# Altium schematic symbol library Connectors.SchLib: 48 symbols
Pins are listed as number, name and electrical type; pins without a type are passive.

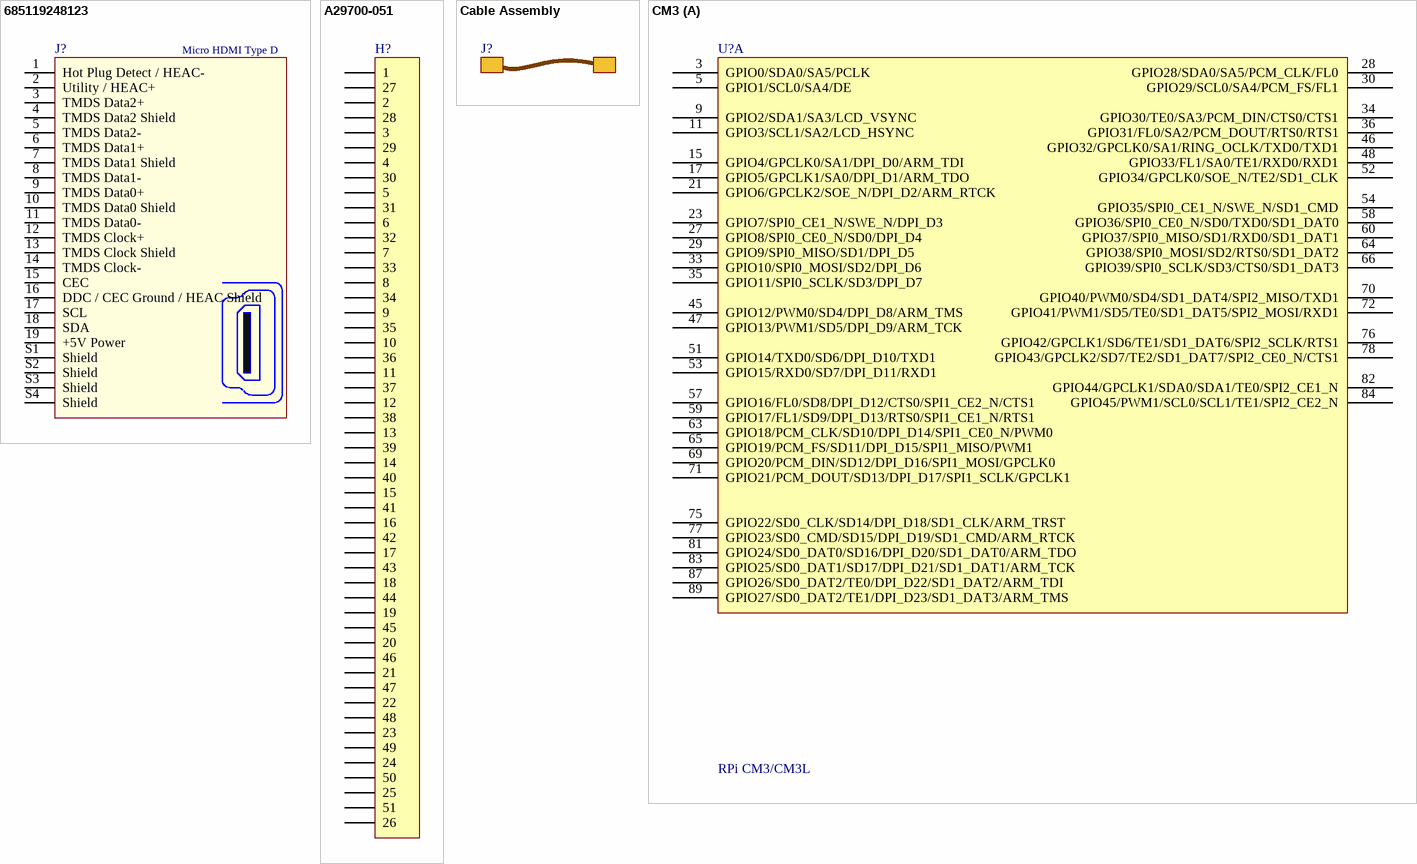
[diagram p0: symbols 685119248123 to CM3]

## 685119248123
designator J?, comment Micro HDMI Type D
Micro HDMI Type D Horizontal SMT WR-COM; Part Number: 685119248123; Rated Current: 0.5 A; ComponentLink1Description: Manufacturer; ComponentLink1URL: http://www.we-online.de; ComponentLink2Description: Datasheet; ComponentLink2URL: http://katalog.we-online.de/em/datasheet/685119248123.pdf; Published Date: May 2018; Publisher: Wurth Elektronik; Orientation: Horizontal; Interface Type: Micro HDMI Type D; Operating Temperature: -40 to 85 degC; Mounting Technology: SMT; Packaging: Tape and Reel
footprint 685119248123 (Micro HDMI Horizontal SMT)
pins: 1 Hot Plug Detect / HEAC-, 2 Utility / HEAC+, 3 TMDS Data2+, 4 TMDS Data2 Shield, 5 TMDS Data2-, 6 TMDS Data1+, 7 TMDS Data1 Shield, 8 TMDS Data1-, 9 TMDS Data0+, 10 TMDS Data0 Shield, 11 TMDS Data0-, 12 TMDS Clock+, 13 TMDS Clock Shield, 14 TMDS Clock-, 15 CEC, 16 DDC / CEC Ground / HEAC Shield, 17 SCL, 18 SDA, 19 +5V Power, S1 Shield, S2 Shield, S3 Shield, S4 Shield

## A29700-051
designator H?, comment A29700--051  (value not drawn)
Omnetics Bi-Lobe MIL-DTL-32139; Supplier Part Number 1: A29700-051; Supplier 1: Omnetics
footprint A29700--051 (Omnetics Bi-Lobe MIL-DTL-32139)
pins: 1, 2, 3, 4, 5, 6, 7, 8, 9, 10, 11, 12, 13, 14, 15, 16, 17, 18, 19, 20, 21, 22, 23, 24, 25, 26, 27, 28, 29, 30, 31, 32, 33, 34, 35, 36, 37, 38, 39, 40, 41, 42, 43, 44, 45, 46, 47, 48, 49, 50, 51

## Cable Assembly
designator J?  (value not drawn)  (mechanical)

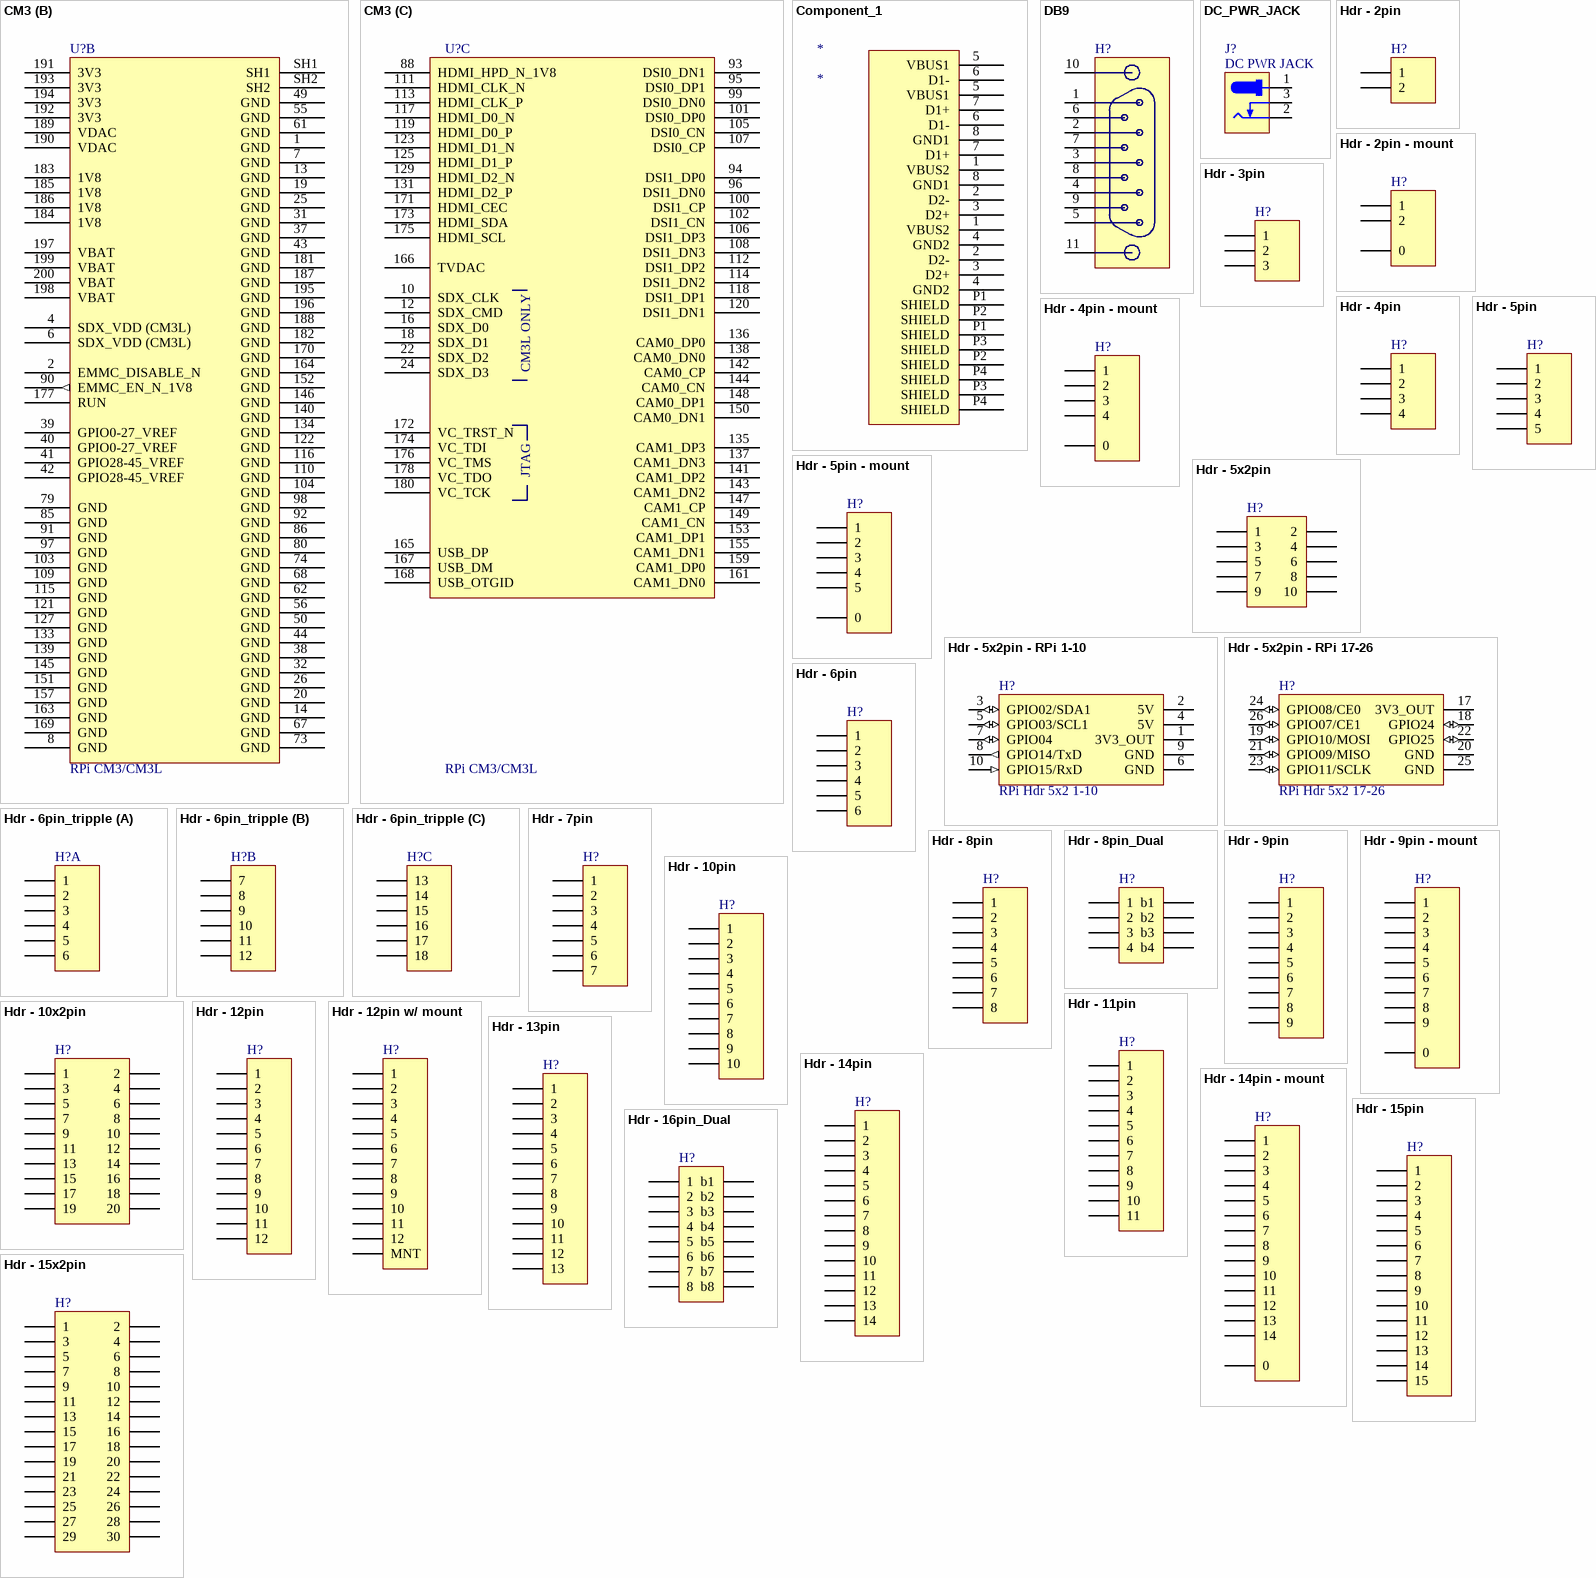
[diagram p1: symbols CM3 to Hdr - 16pin_Dual]

## CM3
designator U?, comment RPi CM3/CM3L
footprint DDR2_1473149-4 (DDR2 SODIMM Memory Socket)
footprint DDR2_1612618-4
footprint DDR2_1827341-4
part A pins: 3 GPIO0/SDA0/SA5/PCLK, 5 GPIO1/SCL0/SA4/DE, 9 GPIO2/SDA1/SA3/LCD_VSYNC, 11 GPIO3/SCL1/SA2/LCD_HSYNC, 15 GPIO4/GPCLK0/SA1/DPI_D0/ARM_TDI, 17 GPIO5/GPCLK1/SA0/DPI_D1/ARM_TDO, 21 GPIO6/GPCLK2/SOE_N/DPI_D2/ARM_RTCK, 23 GPIO7/SPI0_CE1_N/SWE_N/DPI_D3, 27 GPIO8/SPI0_CE0_N/SD0/DPI_D4, 28 GPIO28/SDA0/SA5/PCM_CLK/FL0, 29 GPIO9/SPI0_MISO/SD1/DPI_D5, 30 GPIO29/SCL0/SA4/PCM_FS/FL1, 33 GPIO10/SPI0_MOSI/SD2/DPI_D6, 34 GPIO30/TE0/SA3/PCM_DIN/CTS0/CTS1, 35 GPIO11/SPI0_SCLK/SD3/DPI_D7, 36 GPIO31/FL0/SA2/PCM_DOUT/RTS0/RTS1, 45 GPIO12/PWM0/SD4/DPI_D8/ARM_TMS, 46 GPIO32/GPCLK0/SA1/RING_OCLK/TXD0/TXD1, 47 GPIO13/PWM1/SD5/DPI_D9/ARM_TCK, 48 GPIO33/FL1/SA0/TE1/RXD0/RXD1, 51 GPIO14/TXD0/SD6/DPI_D10/TXD1, 52 GPIO34/GPCLK0/SOE_N/TE2/SD1_CLK, 53 GPIO15/RXD0/SD7/DPI_D11/RXD1, 54 GPIO35/SPI0_CE1_N/SWE_N/SD1_CMD, 57 GPIO16/FL0/SD8/DPI_D12/CTS0/SPI1_CE2_N/CTS1, 58 GPIO36/SPI0_CE0_N/SD0/TXD0/SD1_DAT0, 59 GPIO17/FL1/SD9/DPI_D13/RTS0/SPI1_CE1_N/RTS1, 60 GPIO37/SPI0_MISO/SD1/RXD0/SD1_DAT1, 63 GPIO18/PCM_CLK/SD10/DPI_D14/SPI1_CE0_N/PWM0, 64 GPIO38/SPI0_MOSI/SD2/RTS0/SD1_DAT2, 65 GPIO19/PCM_FS/SD11/DPI_D15/SPI1_MISO/PWM1, 66 GPIO39/SPI0_SCLK/SD3/CTS0/SD1_DAT3, 69 GPIO20/PCM_DIN/SD12/DPI_D16/SPI1_MOSI/GPCLK0, 70 GPIO40/PWM0/SD4/SD1_DAT4/SPI2_MISO/TXD1, 71 GPIO21/PCM_DOUT/SD13/DPI_D17/SPI1_SCLK/GPCLK1, 72 GPIO41/PWM1/SD5/TE0/SD1_DAT5/SPI2_MOSI/RXD1, 75 GPIO22/SD0_CLK/SD14/DPI_D18/SD1_CLK/ARM_TRST, 76 GPIO42/GPCLK1/SD6/TE1/SD1_DAT6/SPI2_SCLK/RTS1, 77 GPIO23/SD0_CMD/SD15/DPI_D19/SD1_CMD/ARM_RTCK, 78 GPIO43/GPCLK2/SD7/TE2/SD1_DAT7/SPI2_CE0_N/CTS1, 81 GPIO24/SD0_DAT0/SD16/DPI_D20/SD1_DAT0/ARM_TDO, 82 GPIO44/GPCLK1/SDA0/SDA1/TE0/SPI2_CE1_N, 83 GPIO25/SD0_DAT1/SD17/DPI_D21/SD1_DAT1/ARM_TCK, 84 GPIO45/PWM1/SCL0/SCL1/TE1/SPI2_CE2_N, 87 GPIO26/SD0_DAT2/TE0/DPI_D22/SD1_DAT2/ARM_TDI, 89 GPIO27/SD0_DAT2/TE1/DPI_D23/SD1_DAT3/ARM_TMS
part B pins: 1 GND (power), 2 EMMC_DISABLE_N (oe), 4 SDX_VDD (CM3L), 6 SDX_VDD (CM3L), 7 GND (power), 8 GND (power), 13 GND (power), 14 GND (power), 19 GND (power), 20 GND (power), 25 GND (power), 26 GND (power), 31 GND (power), 32 GND (power), 37 GND (power), 38 GND (power), 39 GPIO0-27_VREF (power), 40 GPIO0-27_VREF (power), 41 GPIO28-45_VREF (power), 42 GPIO28-45_VREF (power), 43 GND (power), 44 GND (power), 49 GND (power), 50 GND (power), 55 GND (power), 56 GND (power), 61 GND (power), 62 GND (power), 67 GND (power), 68 GND (power), 73 GND (power), 74 GND (power), 79 GND (power), 80 GND (power), 85 GND (power), 86 GND (power), 90 EMMC_EN_N_1V8 (out), 91 GND (power), 92 GND (power), 97 GND (power), 98 GND (power), 103 GND (power), 104 GND (power), 109 GND (power), 110 GND (power), 115 GND (power), 116 GND (power), 121 GND (power), 122 GND (power), 127 GND (power), 133 GND (power), 134 GND (power), 139 GND (power), 140 GND (power), 145 GND (power), 146 GND (power), 151 GND (power), 152 GND (power), 157 GND (power), 163 GND (power), 164 GND (power), 169 GND (power), 170 GND (power), 177 RUN (oe), 181 GND (power), 182 GND (power), 183 1V8 (power), 184 1V8 (power), 185 1V8 (power), 186 1V8 (power), 187 GND (power), 188 GND (power), 189 VDAC (power), 190 VDAC (power), 191 3V3 (power), 192 3V3 (power), 193 3V3 (power), 194 3V3 (power), 195 GND (power), 196 GND (power), 197 VBAT (power), 198 VBAT (power), 199 VBAT (power), 200 VBAT (power), SH1 (power), SH2 (power)
part C pins: 10 SDX_CLK, 12 SDX_CMD, 16 SDX_D0, 18 SDX_D1, 22 SDX_D2, 24 SDX_D3, 88 HDMI_HPD_N_1V8, 93 DSI0_DN1, 94 DSI1_DP0, 95 DSI0_DP1, 96 DSI1_DN0, 99 DSI0_DN0, 100 DSI1_CP, 101 DSI0_DP0, 102 DSI1_CN, 105 DSI0_CN, 106 DSI1_DP3, 107 DSI0_CP, 108 DSI1_DN3, 111 HDMI_CLK_N, 112 DSI1_DP2, 113 HDMI_CLK_P, 114 DSI1_DN2, 117 HDMI_D0_N, 118 DSI1_DP1, 119 HDMI_D0_P, 120 DSI1_DN1, 123 HDMI_D1_N, 125 HDMI_D1_P, 129 HDMI_D2_N, 131 HDMI_D2_P, 135 CAM1_DP3, 136 CAM0_DP0, 137 CAM1_DN3, 138 CAM0_DN0, 141 CAM1_DP2, 142 CAM0_CP, 143 CAM1_DN2, 144 CAM0_CN, 147 CAM1_CP, 148 CAM0_DP1, 149 CAM1_CN, 150 CAM0_DN1, 153 CAM1_DP1, 155 CAM1_DN1, 159 CAM1_DP0, 161 CAM1_DN0, 165 USB_DP, 166 TVDAC, 167 USB_DM, 168 USB_OTGID, 171 HDMI_CEC, 172 VC_TRST_N, 173 HDMI_SDA, 174 VC_TDI, 175 HDMI_SCL, 176 VC_TMS, 178 VC_TDO, 180 VC_TCK
part C text: CM3L ONLY; JTAG

## Component_1
designator *
pins: 1 VBUS2, 1 VBUS2, 2 D2-, 2 D2-, 3 D2+, 3 D2+, 4 GND2, 4 GND2, 5 VBUS1, 5 VBUS1, 6 D1-, 6 D1-, 7 D1+, 7 D1+, 8 GND1, 8 GND1, P1 SHIELD, P1 SHIELD, P2 SHIELD, P2 SHIELD, P3 SHIELD, P3 SHIELD, P4 SHIELD, P4 SHIELD

## DB9
designator H?  (value not drawn)
CONN D-SUB RCPT
footprint TYCO_1734348-1
pins: 1, 2, 3, 4, 5, 6, 7, 8, 9, 10, 11

## DC_PWR_JACK
designator J?, comment DC PWR JACK
footprint CUI_PJ_002AH (DC Power Jack)
footprint PJ-002AH-SMT (DC Power Jack SMT)
pins: 1, 2, 3

## Hdr - 2pin
designator H?
2 pin header
footprint 53047-02
footprint THR-1x2-0.1IN (Through Hold 0.1 Inch Pitch Header)
footprint 53261-0271 (Molex 1.25mm R/A SMD)
footprint 53398-0271 (Molex 1.25mm SMD)
footprint THR-1x2-0.1IN MDEANS (Through Hold 0.1 Inch Pitch Header - Mini Deans)
footprint Model Name (Footprint not found)
footprint Edge-1x2-0.1IN - MDEANS
footprint BM02B-GHS-TBT(LF)(SN)(N) (CONN HEADER GH TOP 2POS 1.25MM)
footprint SM02B-GHS-TB(LF)(SN) (CONN HEADER GH TOP 15POS 1.25MM)
footprint TE_1775469-2 (CONN HEADER 2POS 2MM R/A SMD)
footprint S2B-PH-SM4-TB(LF)(SN)
footprint 1757242 (2 Position Terminal Block Header, Male Pins, Shrouded (4 Side) 0.200" (5.08mm) 90°, Right Angle  Through Hole)
footprint Solder_Pad_02_0.25mm (Two parallel solder pads, 1.25 mm pitch, for wire connection)
pins: 1, 2

## Hdr - 2pin - mount
designator H?
2 pin header - mount
footprint 53261-0271 (Molex 1.25mm R/A SMD)
footprint 53398-0271 (Molex 1.25mm SMD)
footprint BM02B-GHS-TBT(LF)(SN)(N) (CONN HEADER GH TOP 2POS 1.25MM)
footprint SM02B-GHS-TB(LF)(SN) (CONN HEADER GH TOP 15POS 1.25MM)
footprint TE_1775469-2 (CONN HEADER 2POS 2MM R/A SMD)
footprint S2B-PH-SM4-TB(LF)(SN)
pins: 0, 1, 2

## Hdr - 3pin
designator H?
3 pin header
footprint 53047-03
footprint JST-EZH-03
footprint 53261-0371 (Molex 1.25mm R/A SMD)
footprint 53398-0371 (Molex 1.25mm SMD)
footprint THR-1x3-0.1IN (Through Hold 0.1 Inch Pitch Header)
pins: 1, 2, 3

## Hdr - 4pin
designator H?
4 pin header
footprint 53047-04
footprint Side-1x4-0.1in
footprint 53261-0471 (Molex 1.25mm R/A SMD)
footprint 53261-0471 (Molex 1.25mm R/A SMD)
footprint 53398-0471 (Molex 1.25mm SMD)
footprint SM04B-GHS-TB(LF)(SN) (CONN HEADER GH TOP 4POS 1.25MM)
pins: 1, 2, 3, 4

## Hdr - 4pin - mount
designator H?
4 pin header - mount
footprint 53261-0471 (Molex 1.25mm R/A SMD)
footprint 53261-0471 (Molex 1.25mm R/A SMD)
footprint 53398-0471 (Molex 1.25mm SMD)
footprint SM04B-GHS-TB(LF)(SN) (CONN HEADER GH TOP 4POS 1.25MM)
pins: 0, 1, 2, 3, 4

## Hdr - 5pin
designator H?
5 pin header
footprint 53261-0571 (Molex 1.25mm R/A SMD)
footprint 53047-05
footprint 53398-0571 (Molex 1.25mm SMD)
pins: 1, 2, 3, 4, 5

## Hdr - 5pin - mount
designator H?
5 pin header - mount
footprint 53261-0571 (Molex 1.25mm R/A SMD)
footprint 53398-0571 (Molex 1.25mm SMD)
footprint BM05B-GHS-TBT(LF)(SN)(N) (CONN HEADER GH TOP 5POS 1.25MM)
footprint SM05B-GHS-TB(LF)(SN) (CONN HEADER GH TOP 15POS 1.25MM)
pins: 0, 1, 2, 3, 4, 5

## Hdr - 5x2pin
designator H?
5 pin header; --: --; ---: --
footprint FTSH-105-01-L-DV-K-A-P (Samtec 2x5 1.27mm Header)
footprint FLE-105-01-G-DV (Samtec 2x5 1.27mm Socket)
footprint FTSH-105-01-L-DV-K-A-P - design (Samtec 2x5 1.27mm Header)
footprint TSM-105-04-L-DV (Samtec 5x2 2.54mm Header)
pins: 1, 2, 3, 4, 5, 6, 7, 8, 9, 10

## Hdr - 5x2pin - RPi 1-10
designator H?, comment RPi Hdr 1-10  (value not drawn)
5x2 pin header. Symbol matches pins 1-10 of Raspberry Pi header; --: --; ---: --
footprint TSM-105-04-L-DV (Samtec 5x2 2.54mm Header)
pins: 1 3V3_OUT (power), 2 5V (power), 3 GPIO02/SDA1 (io), 4 5V (power), 5 GPIO03/SCL1 (io), 6 GND (power), 7 GPIO04 (io), 8 GPIO14/TxD (out), 9 GND (power), 10 GPIO15/RxD (in)
text: RPi Hdr 5x2 1-10

## Hdr - 5x2pin - RPi 17-26
designator H?, comment RPi Hdr 17-26  (value not drawn)
5x2 pin header. Symbol matches pins 17-26 of Raspberry Pi header; --: --; ---: --
footprint TSM-105-04-L-DV (Samtec 5x2 2.54mm Header); pin to pad 17>1 18>2 19>3 20>4 21>5 22>6 23>7 24>8 25>9 26>10
pins: 17 3V3_OUT (power), 18 GPIO24 (io), 19 GPIO10/MOSI (io), 20 GND (power), 21 GPIO09/MISO (io), 22 GPIO25 (io), 23 GPIO11/SCLK (io), 24 GPIO08/CE0 (io), 25 GND (power), 26 GPIO07/CE1 (io)
text: RPi Hdr 5x2 17-26

## Hdr - 6pin
designator H?
6 pin header
footprint 53047-06
footprint 53261-0671 (Molex 1.25mm R/A SMD)
footprint 53398-0671 (Molex 1.25mm SMD)
pins: 1, 2, 3, 4, 5, 6

## Hdr - 6pin_tripple
designator H?
6 pin header tripple row
footprint THR-3x6-0.1IN (Through Hold 0.1 Inch Pitch Header)
part A pins: 1, 2, 3, 4, 5, 6
part B pins: 7, 8, 9, 10, 11, 12
part C pins: 13, 14, 15, 16, 17, 18

## Hdr - 7pin
designator H?
7 pin header
footprint 53047-07
footprint 53261-0771 (Molex 1.25mm R/A SMD)
footprint 53398-0771 (Molex 1.25mm SMD)
pins: 1, 2, 3, 4, 5, 6, 7

## Hdr - 8pin
designator H?
8 pin header
footprint 53047-08
footprint Side-1x8-0.1in
footprint 53261-0871 (Molex 1.25mm R/A SMD)
footprint 53398-0871 (Molex 1.25mm SMD)
footprint SM08B-GHS-TB(LF)(SN) (CONN HEADER GH TOP 8POS 1.25MM)
pins: 1, 2, 3, 4, 5, 6, 7, 8

## Hdr - 8pin_Dual
designator H?
4 pin header
footprint Side-2x4-0.1in
pins: 1, 2, 3, 4, b1, b2, b3, b4

## Hdr - 9pin
designator H?
9 pin header
footprint 53047-09
footprint 53261-0971 (Molex 1.25mm R/A SMD)
footprint 53398-0971 (Molex 1.25mm SMD)
footprint SM09B-GHS-TB(LF)(SN) (CONN HEADER GH TOP 9POS 1.25MM)
pins: 1, 2, 3, 4, 5, 6, 7, 8, 9

## Hdr - 9pin - mount
designator H?
9 pin header - mount
footprint 53261-0971 (Molex 1.25mm R/A SMD)
footprint 53398-0971 (Molex 1.25mm SMD)
footprint SM09B-GHS-TB(LF)(SN) (CONN HEADER GH TOP 9POS 1.25MM)
footprint BM09B-GHS-TBT(LF)(SN)(N) (CONN HEADER GH TOP 9POS 1.25MM)
pins: 0, 1, 2, 3, 4, 5, 6, 7, 8, 9

## Hdr - 10pin
designator H?
10 pin header
footprint 53047-10
footprint 53261-1071 (Molex 1.25mm R/A SMD)
footprint 53398-1071 (Molex 1.25mm SMD)
footprint SM10B-GHS-TB(LF)(SN) (CONN HEADER GH TOP 10POS 1.25MM)
pins: 1, 2, 3, 4, 5, 6, 7, 8, 9, 10

## Hdr - 10x2pin
designator H?
Dual Row 20 pin header
footprint DF12A-20DS (Hirose Receptacle, 20-Leads , Body 7.1x3.6mm (max), Pitch 0.50mm)
footprint DF12A-20DP (Hirose Header, 20-Leads , Body 7.1x3.6mm (max), Pitch 0.50mm)
pins: 1, 2, 3, 4, 5, 6, 7, 8, 9, 10, 11, 12, 13, 14, 15, 16, 17, 18, 19, 20

## Hdr - 11pin
designator H?
11 pin header
footprint 53047-11
footprint 53261-1171 (Molex 1.25mm R/A SMD)
footprint 53398-1171 (Molex 1.25mm SMD)
pins: 1, 2, 3, 4, 5, 6, 7, 8, 9, 10, 11

## Hdr - 12pin
designator H?
12 pin header
footprint 53047-12
footprint 53261-1271 (Molex 1.25mm R/A SMD)
footprint 53398-1271 (Molex 1.25mm SMD)
footprint G125-MV11205L1P (Gecko Male Vertical DIL PC Tail Connector 12 pin)
footprint G125-MV11205M2P (Gecko Screw-Lok Male Vertical DIL PC Tail Connector 12 pin)
footprint TFM-105-01-L-D-WT (HEADER 10POS 1.27MM THRUHOLE)
footprint BM12B-GHS-TBT(LF)(SN)(N) (CONN HEADER GH TOP 12POS 1.25MM)
pins: 1, 2, 3, 4, 5, 6, 7, 8, 9, 10, 11, 12

## Hdr - 12pin w/ mount
designator H?
12 pin header
footprint G125-MV11205L1P (Gecko Male Vertical DIL PC Tail Connector 12 pin)
pins: 0 MNT, 1, 2, 3, 4, 5, 6, 7, 8, 9, 10, 11, 12

## Hdr - 13pin
designator H?
13 pin header
footprint 53047-13
footprint 53261-1371 (Molex 1.25mm R/A SMD)
footprint 53398-1371 (Molex 1.25mm SMD)
pins: 1, 2, 3, 4, 5, 6, 7, 8, 9, 10, 11, 12, 13

## Hdr - 14pin
designator H?
14 pin header
footprint 53047-14
footprint 53261-1471 (Molex 1.25mm R/A SMD)
footprint 53398-1471 (Molex 1.25mm SMD)
footprint SM14B-GHS-TB(LF)(SN) (CONN HEADER GH TOP 15POS 1.25MM)
pins: 1, 2, 3, 4, 5, 6, 7, 8, 9, 10, 11, 12, 13, 14

## Hdr - 14pin - mount
designator H?
14 pin header - mount
footprint 53261-1471 (Molex 1.25mm R/A SMD)
footprint 53398-1471 (Molex 1.25mm SMD)
footprint SM14B-GHS-TB(LF)(SN) (CONN HEADER GH TOP 15POS 1.25MM)
pins: 0, 1, 2, 3, 4, 5, 6, 7, 8, 9, 10, 11, 12, 13, 14

## Hdr - 15pin
designator H?
15 pin header
footprint 53047-15
footprint 53261-1571 (Molex 1.25mm R/A SMD)
footprint 53398-1571 (Molex 1.25mm SMD)
footprint BM15B-GHS-TBT(LF)(SN)(N) (CONN HEADER GH TOP 15POS 1.25MM)
pins: 1, 2, 3, 4, 5, 6, 7, 8, 9, 10, 11, 12, 13, 14, 15

## Hdr - 15x2pin
designator H?
Dual Row 30 pin header
footprint DF12A-30DP (Hirose Header, 30-Leads , Body 9.6x3.6mm (max), Pitch 0.50mm)
footprint DF12A-30DS (Hirose Receptacle, 30-Leads , Body 9.6x3.6mm (max), Pitch 0.50mm)
pins: 1, 2, 3, 4, 5, 6, 7, 8, 9, 10, 11, 12, 13, 14, 15, 16, 17, 18, 19, 20, 21, 22, 23, 24, 25, 26, 27, 28, 29, 30

## Hdr - 16pin_Dual
designator H?
4 pin header
footprint Side-2x8-0.1in
pins: 1, 2, 3, 4, 5, 6, 7, 8, b1, b2, b3, b4, b5, b6, b7, b8

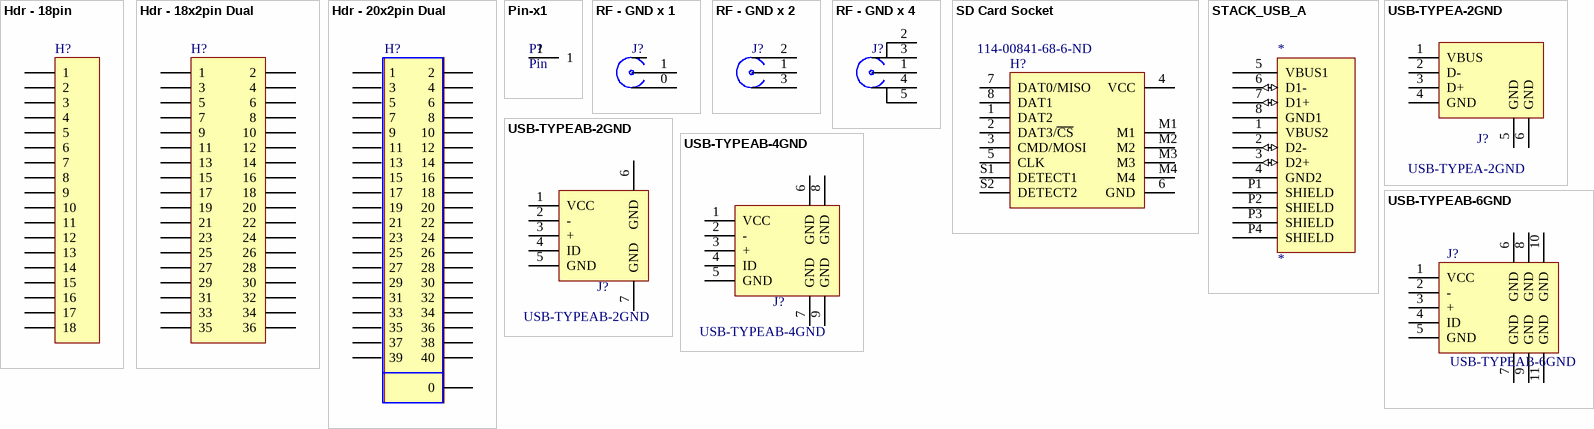
[diagram p2: symbols Hdr - 18pin to USB-TYPEAB-6GND]

## Hdr - 18pin
designator H?
18 pin header
footprint THR-1x18-0.1IN (Through Hold 0.1 Inch Pitch Header)
pins: 1, 2, 3, 4, 5, 6, 7, 8, 9, 10, 11, 12, 13, 14, 15, 16, 17, 18

## Hdr - 18x2pin Dual
designator H?
Dual Row 36 pin header
footprint DF12A-36DP (Hirose Header, 36-Leads , Body 11.1x3.6mm (max), Pitch 0.50mm)
footprint DF12A-36DS (Hirose Receptacle, 36-Leads , Body 11.1x3.6mm (max), Pitch 0.50mm)
footprint THR-2x18-0.1IN (Through Hold 0.1 Inch Pitch Header)
pins: 1, 2, 3, 4, 5, 6, 7, 8, 9, 10, 11, 12, 13, 14, 15, 16, 17, 18, 19, 20, 21, 22, 23, 24, 25, 26, 27, 28, 29, 30, 31, 32, 33, 34, 35, 36

## Hdr - 20x2pin Dual
designator H?
Dual Row 40 pin header
footprint ERM8-020-XX.X-X-DV-L
footprint ERF8-020-XX-X-D-RA
pins: 0, 1, 2, 3, 4, 5, 6, 7, 8, 9, 10, 11, 12, 13, 14, 15, 16, 17, 18, 19, 20, 21, 22, 23, 24, 25, 26, 27, 28, 29, 30, 31, 32, 33, 34, 35, 36, 37, 38, 39, 40

## Pin-x1
designator P?, comment Pin
pins: 1

## RF - GND x 1
designator J?  (value not drawn)
footprint RF THR (RF .2" x .2" Pitch Through Hole)
footprint RF THR RA DUAL (RF .2" x .2" and .396" x .396" Pitch Through Hole Right Angle SMA BNC)
pins: 0, 1

## RF - GND x 2
designator J?  (value not drawn)
footprint RF UMC SMD (Ultra Miniature Coaxial Surface Mount)
pins: 1, 2, 3

## RF - GND x 4
designator J?  (value not drawn)
footprint MMCX-J-P-H-RA-TH1 (CONN MMCX JACK R/A 50 OHM PCB)
footprint MMCX-J-P-H-RA-TH1 w/ Plug (CONN MMCX JACK R/A 50 OHM PCB)
footprint 135-3701-311 w/ Plug (CONN MMCX JACK R/A 50 OHM PCB)
footprint RF RPSMA End Launch (RF SMA End Launch Bulkhead Jack)
footprint RF SMA End Launch (RF SMA End Launch Bulkhead Jack)
footprint RF SMA End Launch Bulk (RF SMA End Launch Bulkhead Jack)
footprint RF SMA End Launch 2 (RF SMA End Launch Jack)
pins: 1, 2, 3, 4, 5

## SD Card Socket
designator H?  Supplier Part Number 1: 114-00841-68-6-ND  (hidden comment: *)
Supplier 1: Digikey
footprint 114-00841-68 (Amphenol SD Card Socket)
footprint 5033981892 (Molex MicroSD Card Socket)
pins: 1 DAT2, 2 DAT3/~{CS}, 3 CMD/MOSI, 4 VCC (power), 5 CLK, 6 GND (power), 7 DAT0/MISO, 8 DAT1, M1 (power), M2 (power), M3 (power), M4 (power), S1 DETECT1 (power), S2 DETECT2 (power)

## STACK_USB_A
designator *
footprint TE_1903815-1_1903815-1(Primary)
pins: 1 VBUS2 (power), 2 D2- (io), 3 D2+ (io), 4 GND2 (power), 5 VBUS1 (power), 6 D1- (io), 7 D1+ (io), 8 GND1 (power), P1 SHIELD, P2 SHIELD, P3 SHIELD, P4 SHIELD

## USB-TYPEA-2GND
designator J?
CONN USB A 4POS
footprint USB-A_SMD (USB Type A SMD R/A)
footprint USB-A_THR (USB Type A Through Hole R/A)
footprint USB TE_292303-7_292303-7
pins: 1 VBUS, 2 D-, 3 D+, 4 GND, 5 GND, 6 GND

## USB-TYPEAB-2GND
designator J?
CONN USB AB 2POS
footprint USB MICRO AB R/A RUGGED (USB - micro AB USB 2.0 Receptacle Connector 5 Position Panel Mount, Through Hole, Right Angle)
pins: 1 VCC, 2 -, 3 +, 4 ID, 5 GND, 6 GND, 7 GND

## USB-TYPEAB-4GND
designator J?
CONN USB AB 4POS
footprint USB Micro AB R/A - design (USB Micro AB R/A Surface Mount)
footprint USB Micro B Vert (USB Micro B Vertical Mount)
footprint USB Micro AB R/A (USB Micro AB R/A Surface Mount)
footprint USB Micro AB R/A THR (USB Micro AB R/A Through Hole)
footprint USB Micro AB R/A THR - design (USB Micro AB R/A Through Hole)
pins: 1 VCC, 2 -, 3 +, 4 ID, 5 GND, 6 GND, 7 GND, 8 GND, 9 GND

## USB-TYPEAB-6GND
designator J?
CONN USB AB 5POS
footprint USB Micro AB R/A (USB Micro AB R/A Surface Mount)
footprint USB Micro AB R/A - design (USB Micro AB R/A Surface Mount)
pins: 1 VCC, 2 -, 3 +, 4 ID, 5 GND, 6 GND, 7 GND, 8 GND, 9 GND, 10 GND, 11 GND